# EAGLE library part SAMTEC_BKT_119_1 (library AMH)
Header connector
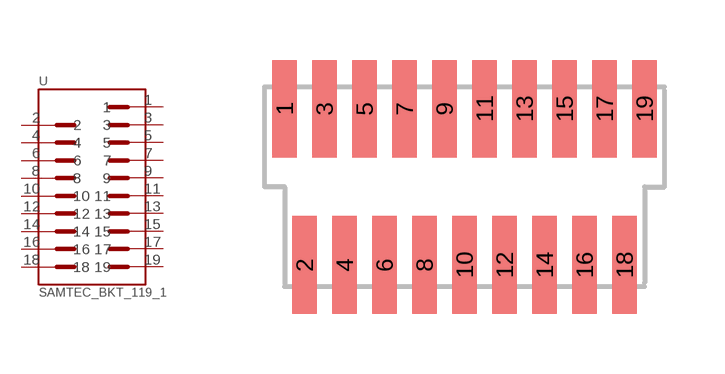
[diagram p3: symbol with the pads of SAMTEC_19P_1MM_MICRO_CONN; footprint SAMTEC_19P_1MM_MICRO_CONN]

Designator prefix -

## SAMTEC_BKT_119_1  [SAMTEC_19P_1MM_MICRO_CONN]
1  1  pas
2  2  pas
3  3  pas
4  4  pas
5  5  pas
6  6  pas
7  7  pas
8  8  pas
9  9  pas
10  10  pas
11  11  pas
12  12  pas
13  13  pas
14  14  pas
15  15  pas
16  16  pas
17  17  pas
18  18  pas
19  19  pas

## Footprint SAMTEC_19P_1MM_MICRO_CONN (pad centres in mm)
smd 0.61 x 2.44: 1 -4,1.955; 2 -3.5,-1.955; 3 -3,1.955; 4 -2.5,-1.955; 5 -2,1.955; 6 -1.5,-1.955; 7 -1,1.955; 8 -0.5,-1.955; 9 0,1.955; 10 0.5,-1.955; 11 1,1.955; 12 1.5,-1.955; 13 2,1.955; 14 2.5,-1.955; 15 3,1.955; 16 3.5,-1.955; 17 4,1.955; 18 4.5,-1.955; 19 5,1.955